# Altium schematic symbol library BatteryHolder18650.SchLib: 1 symbol
Pins are listed as number, name and electrical type; pins without a type are passive.

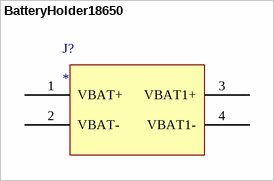
[diagram p0: symbol BatteryHolder18650]

## BatteryHolder18650
designator J?
footprint BatteryHolder18650
pins: 1 VBAT+, 2 VBAT-, 3 VBAT1+, 4 VBAT1-